# Altium footprint library CustomLibrary.PcbLib: 2 footprints
Each footprint in its own frame and in the unit in brackets; x right, y up, seen from the top. Pads: shape width x height; smd on the part's side, far side on the other; paste and mask are expansions set on the pad; w line width, h text height; cw(c..) or ccw(c..) is an arc to the next point about the centre after c.
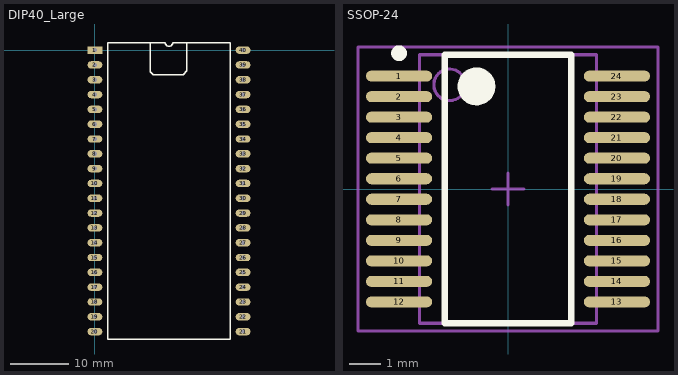
[diagram p0: the footprints below, top view; thin cyan lines are the x and y axes]

## DIP40_Large [mil]
pads (40):
  rect 100x50 hole 28: 1(0,0)
  oval 100x50 hole 28: 2(0,-100) 3(0,-200) 4(0,-300) 5(0,-400) 6(0,-500) 7(0,-600) 8(0,-700) 9(0,-800) 10(0,-900) 11(0,-1000) 12(0,-1100) 13(0,-1200) 14(0,-1300) 15(0,-1400) 16(0,-1500) 17(0,-1600) 18(0,-1700) 19(0,-1800) 20(0,-1900) 21(1000,-1900) 22(1000,-1800) 23(1000,-1700) 24(1000,-1600) 25(1000,-1500) 26(1000,-1400) 27(1000,-1300) 28(1000,-1200) 29(1000,-1100) 30(1000,-1000) 31(1000,-900) 32(1000,-800) 33(1000,-700) 34(1000,-600) 35(1000,-500) 36(1000,-400) 37(1000,-300) 38(1000,-200) 39(1000,-100) 40(1000,0)
Top Overlay:
  lines w10: 375,50 375,-145 395,-165 595,-165 620,-140 620,50 ; 85,-1950 915,-1950 915,50 525,50 cw(c500,50) 475,50 85,50 85,-450 85,-1450 85,-1950
3D body: height 400, standoff 0, extent 915,-1950 1070,50
3D body: height 400, standoff 0, extent -65,-1945 85,50
3D body: height 430, standoff 400, extent -65,-1950 1070,50

## SSOP-24 [mm] "SOP, 24-Leads, Body 8,5x5,6mm (max), Pitch 0,65mm, IPC Medium Density"
height 2
pads (24):
  oval 2.1x0.35 smd: 1(-3.45,3.575) 2(-3.45,2.925) 3(-3.45,2.275) 4(-3.45,1.625) 5(-3.45,0.975) 6(-3.45,0.325) 7(-3.45,-0.325) 8(-3.45,-0.975) 9(-3.45,-1.625) 10(-3.45,-2.275) 11(-3.45,-2.925) 12(-3.45,-3.575) 13(3.45,-3.575) 14(3.45,-2.925) 15(3.45,-2.275) 16(3.45,-1.625) 17(3.45,-0.975) 18(3.45,-0.325) 19(3.45,0.325) 20(3.45,0.975) 21(3.45,1.625) 22(3.45,2.275) 23(3.45,2.925) 24(3.45,3.575)
Top Overlay:
  circle w0.6: c-1,3.25 r0.3
  circle w0.25: c-3.45,4.3 r0.125
  lines w0.2: -2,-4.25 2,-4.25 2,4.25 -2,4.25 -2,-4.25
Mechanical 13:
  circle w0.1: c-1.85,3.3 r0.5
  lines w0.1: -2.8,-4.25 2.8,-4.25 2.8,4.25 -2.8,4.25 -2.8,-4.25
Mechanical 15:
  lines w0.1: -0.5,0 0.5,0 ; 0,-0.5 0,0.5 ; -4.75,-4.5 4.75,-4.5 4.75,4.5 -4.75,4.5 -4.75,-4.5
3D body: height 2, standoff 0.05, extent -2.8,-4.25 2.8,4.25